# EAGLE library part ESP32-C6-WROOM-1 (library ESP32-C6-WROOM-1)
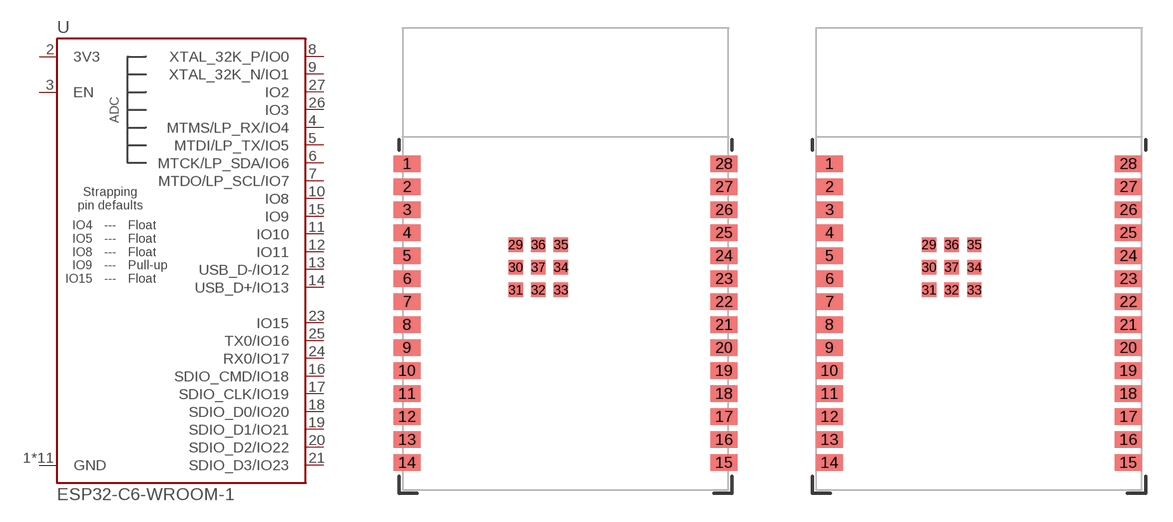
[diagram p0: symbol with the pads of ESP32-C6-WROOM-1; footprints ESP32-C6-WROOM-1, ESP32-C6-WROOM-1-NARROW]

Designator prefix U

## ESP32-C6-WROOM-1 (PROD_ID: IC-19032)  [ESP32-C6-WROOM-1]
1  GND
2  3V3
3  EN
4  MTMS/LP_RX/IO4
5  MTDI/LP_TX/IO5
6  MTCK/LP_SDA/IO6
7  MTDO/LP_SCL/IO7
8  XTAL_32K_P/IO0
9  XTAL_32K_N/IO1
10  IO8
11  IO10
12  IO11
13  USB_D-/IO12
14  USB_D+/IO13
15  IO9
16  SDIO_CMD/IO18
17  SDIO_CLK/IO19
18  SDIO_D0/IO20
19  SDIO_D1/IO21
20  SDIO_D2/IO22
21  SDIO_D3/IO23
23  IO15
24  RX0/IO17
25  TX0/IO16
26  IO3
27  IO2
28  GND
29  GND
30  GND
31  GND
32  GND
33  GND
34  GND
35  GND
36  GND
37  GND

## ESP32-C6-WROOM-1-NARROW (PROD_ID: IC-19032)  [ESP32-C6-WROOM-1-NARROW]
Pads as for ESP32-C6-WROOM-1

## Footprint ESP32-C6-WROOM-1 (pad centres in mm)
smd 1.5 x 0.9: 1 -8.75,5.26; 2 -8.75,3.99; 3 -8.75,2.72; 4 -8.75,1.45; 5 -8.75,0.18; 6 -8.75,-1.09; 7 -8.75,-2.36; 8 -8.75,-3.63; 9 -8.75,-4.9; 10 -8.75,-6.17; 11 -8.75,-7.44; 12 -8.75,-8.71; 13 -8.75,-9.98; 14 -8.75,-11.25; 15 8.75,-11.25; 16 8.75,-9.98; 17 8.75,-8.71; 18 8.75,-7.44; 19 8.75,-6.17; 20 8.75,-4.9; 21 8.75,-3.63; 22 8.75,-2.36; 23 8.75,-1.09; 24 8.75,0.18; 25 8.75,1.45; 26 8.75,2.72; 27 8.75,3.99; 28 8.75,5.26
smd 0.8 x 0.8: 29 -2.755,0.79; 30 -2.755,-0.46; 31 -2.755,-1.71; 32 -1.505,-1.71; 33 -0.255,-1.71; 34 -0.255,-0.46; 35 -0.255,0.79; 36 -1.505,0.79; 37 -1.505,-0.46

## Footprint ESP32-C6-WROOM-1-NARROW (pad centres in mm)
smd 1.5 x 0.9: 1 -8.25,5.26; 2 -8.25,3.99; 3 -8.25,2.72; 4 -8.25,1.45; 5 -8.25,0.18; 6 -8.25,-1.09; 7 -8.25,-2.36; 8 -8.25,-3.63; 9 -8.25,-4.9; 10 -8.25,-6.17; 11 -8.25,-7.44; 12 -8.25,-8.71; 13 -8.25,-9.98; 14 -8.25,-11.25; 15 8.25,-11.25; 16 8.25,-9.98; 17 8.25,-8.71; 18 8.25,-7.44; 19 8.25,-6.17; 20 8.25,-4.9; 21 8.25,-3.63; 22 8.25,-2.36; 23 8.25,-1.09; 24 8.25,0.18; 25 8.25,1.45; 26 8.25,2.72; 27 8.25,3.99; 28 8.25,5.26
smd 0.8 x 0.8: 29 -2.755,0.79; 30 -2.755,-0.46; 31 -2.755,-1.71; 32 -1.505,-1.71; 33 -0.255,-1.71; 34 -0.255,-0.46; 35 -0.255,0.79; 36 -1.505,0.79; 37 -1.505,-0.46